# EAGLE library part TC358778XBG (library pimoroni-ics)
edit this description Auto generated by make-symbol-device-package-bsdl.ulp Rev. 44 Source:
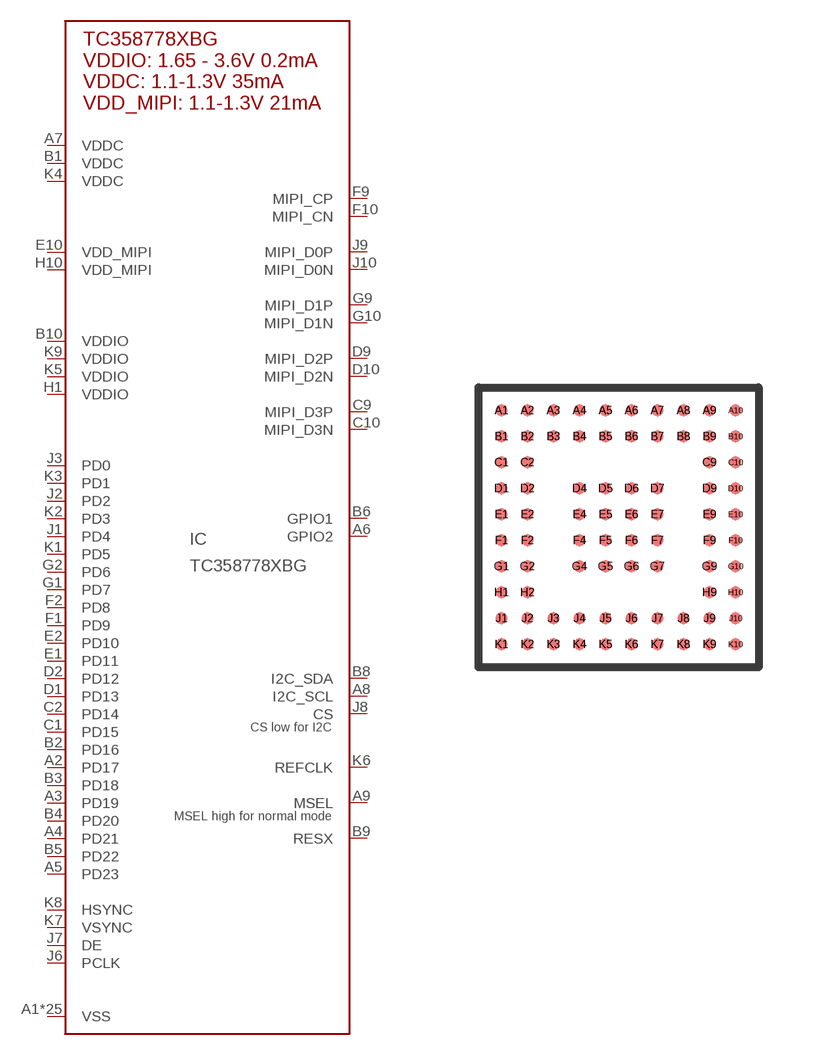
[diagram p83: symbol with the pads of BGA_7X7_0.65MM; footprint BGA_7X7_0.65MM]

Designator prefix IC

## TC358778XBG  [BGA_7X7_0.65MM]
A1  VSS
A2  PD17
A3  PD19
A4  PD21
A5  PD23
A6  GPIO2
A7  VDDC
A8  I2C_SCL
A9  MSEL
A10  VSS
B1  VDDC
B2  PD16
B3  PD18
B4  PD20
B5  PD22
B6  GPIO1
B7  VSS
B8  I2C_SDA
B9  RESX
B10  VDDIO
C1  PD15
C2  PD14
C9  MIPI_D3P
C10  MIPI_D3N
D1  PD13
D2  PD12
D4  VSS
D5  VSS
D6  VSS
D7  VSS
D9  MIPI_D2P
D10  MIPI_D2N
E1  PD11
E2  PD10
E4  VSS
E5  VSS
E6  VSS
E7  VSS
E9  VSS
E10  VDD_MIPI
F1  PD9
F2  PD8
F4  VSS
F5  VSS
F6  VSS
F7  VSS
F9  MIPI_CP
F10  MIPI_CN
G1  PD7
G2  PD6
G4  VSS
G5  VSS
G6  VSS
G7  VSS
G9  MIPI_D1P
G10  MIPI_D1N
H1  VDDIO
H2  VSS
H9  VSS
H10  VDD_MIPI
J1  PD4
J2  PD2
J3  PD0
J4  VSS
J5  VSS
J6  PCLK
J7  DE
J8  CS
J9  MIPI_D0P
J10  MIPI_D0N
K1  PD5
K2  PD3
K3  PD1
K4  VDDC
K5  VDDIO
K6  REFCLK
K7  VSYNC
K8  HSYNC
K9  VDDIO
K10  VSS

## Footprint BGA_7X7_0.65MM (pad centres in mm)
edit this description Auto generated by make-symbol-device-package-bsdl.ulp Rev. 44 Source:
smd 0.3 x 0.3: A1 -2.925,2.925; A2 -2.275,2.925; A3 -1.625,2.925; A4 -0.975,2.925; A5 -0.325,2.925; A6 0.325,2.925; A7 0.975,2.925; A8 1.625,2.925; A9 2.275,2.925; A10 2.925,2.925; B1 -2.925,2.275; B2 -2.275,2.275; B3 -1.625,2.275; B4 -0.975,2.275; B5 -0.325,2.275; B6 0.325,2.275; B7 0.975,2.275; B8 1.625,2.275; B9 2.275,2.275; B10 2.925,2.275; C1 -2.925,1.625; C2 -2.275,1.625; C9 2.275,1.625; C10 2.925,1.625; D1 -2.925,0.975; D2 -2.275,0.975; D4 -0.975,0.975; D5 -0.325,0.975; D6 0.325,0.975; D7 0.975,0.975; D9 2.275,0.975; D10 2.925,0.975; E1 -2.925,0.325; E2 -2.275,0.325; E4 -0.975,0.325; E5 -0.325,0.325; E6 0.325,0.325; E7 0.975,0.325; E9 2.275,0.325; E10 2.925,0.325; F1 -2.925,-0.325; F2 -2.275,-0.325; F4 -0.975,-0.325; F5 -0.325,-0.325; F6 0.325,-0.325; F7 0.975,-0.325; F9 2.275,-0.325; F10 2.925,-0.325; G1 -2.925,-0.975; G2 -2.275,-0.975; G4 -0.975,-0.975; G5 -0.325,-0.975; G6 0.325,-0.975; G7 0.975,-0.975; G9 2.275,-0.975; G10 2.925,-0.975; H1 -2.925,-1.625; H2 -2.275,-1.625; H9 2.275,-1.625; H10 2.925,-1.625; J1 -2.925,-2.275; J2 -2.275,-2.275; J3 -1.625,-2.275; J4 -0.975,-2.275; J5 -0.325,-2.275; J6 0.325,-2.275; J7 0.975,-2.275; J8 1.625,-2.275; J9 2.275,-2.275; J10 2.925,-2.275; K1 -2.925,-2.925; K2 -2.275,-2.925; K3 -1.625,-2.925; K4 -0.975,-2.925; K5 -0.325,-2.925; K6 0.325,-2.925; K7 0.975,-2.925; K8 1.625,-2.925; K9 2.275,-2.925; K10 2.925,-2.925